# Altium footprint library TC_B.PcbLib: 1 footprints
Each footprint in its own frame and in the unit in brackets; x right, y up, seen from the top. Pads: shape width x height; smd on the part's side, far side on the other; paste and mask are expansions set on the pad; w line width, h text height; cw(c..) or ccw(c..) is an arc to the next point about the centre after c.
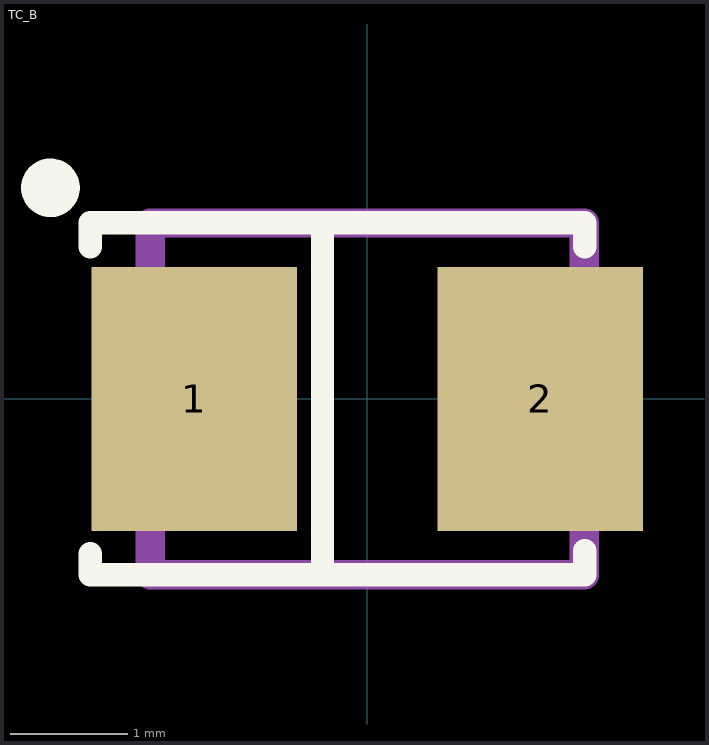
[diagram p0: the footprint, top view; thin cyan lines are the x and y axes]

## TC_B [mm] "Tantalum capacitor, type B, 1 pin - plus"
height 2.1
pads (2):
  rect 1.75x2.25 smd: 1(-1.475,0) 2(1.475,0)
Top Overlay:
  circle w0.25: c-2.7,1.8 r0.125
  lines w0.2: -2.362,-1.321 -2.362,-1.499 -2.361,-1.5 -0.381,-1.5 1.854,-1.5 1.854,-1.295 ; -2.361,1.295 -2.361,1.5 -0.381,1.5 ; -0.381,-1.499 -0.381,1.5 ; 1.854,1.295 1.854,1.5 -0.381,1.5
Mechanical 4:
  lines w0.25: -1.85,-1.5 1.85,-1.5 1.85,1.5 -1.85,1.5 -1.85,-1.5
  text ".Designator" at 3.4,6.203 h2.15
3D body "CAPM-TANTB-BK.stp": height 2.1, standoff 0, extent -1.85,-1.5 1.85,1.5